# Altium integrated library linear.IntLib: 655 symbols (part 4 of 4)
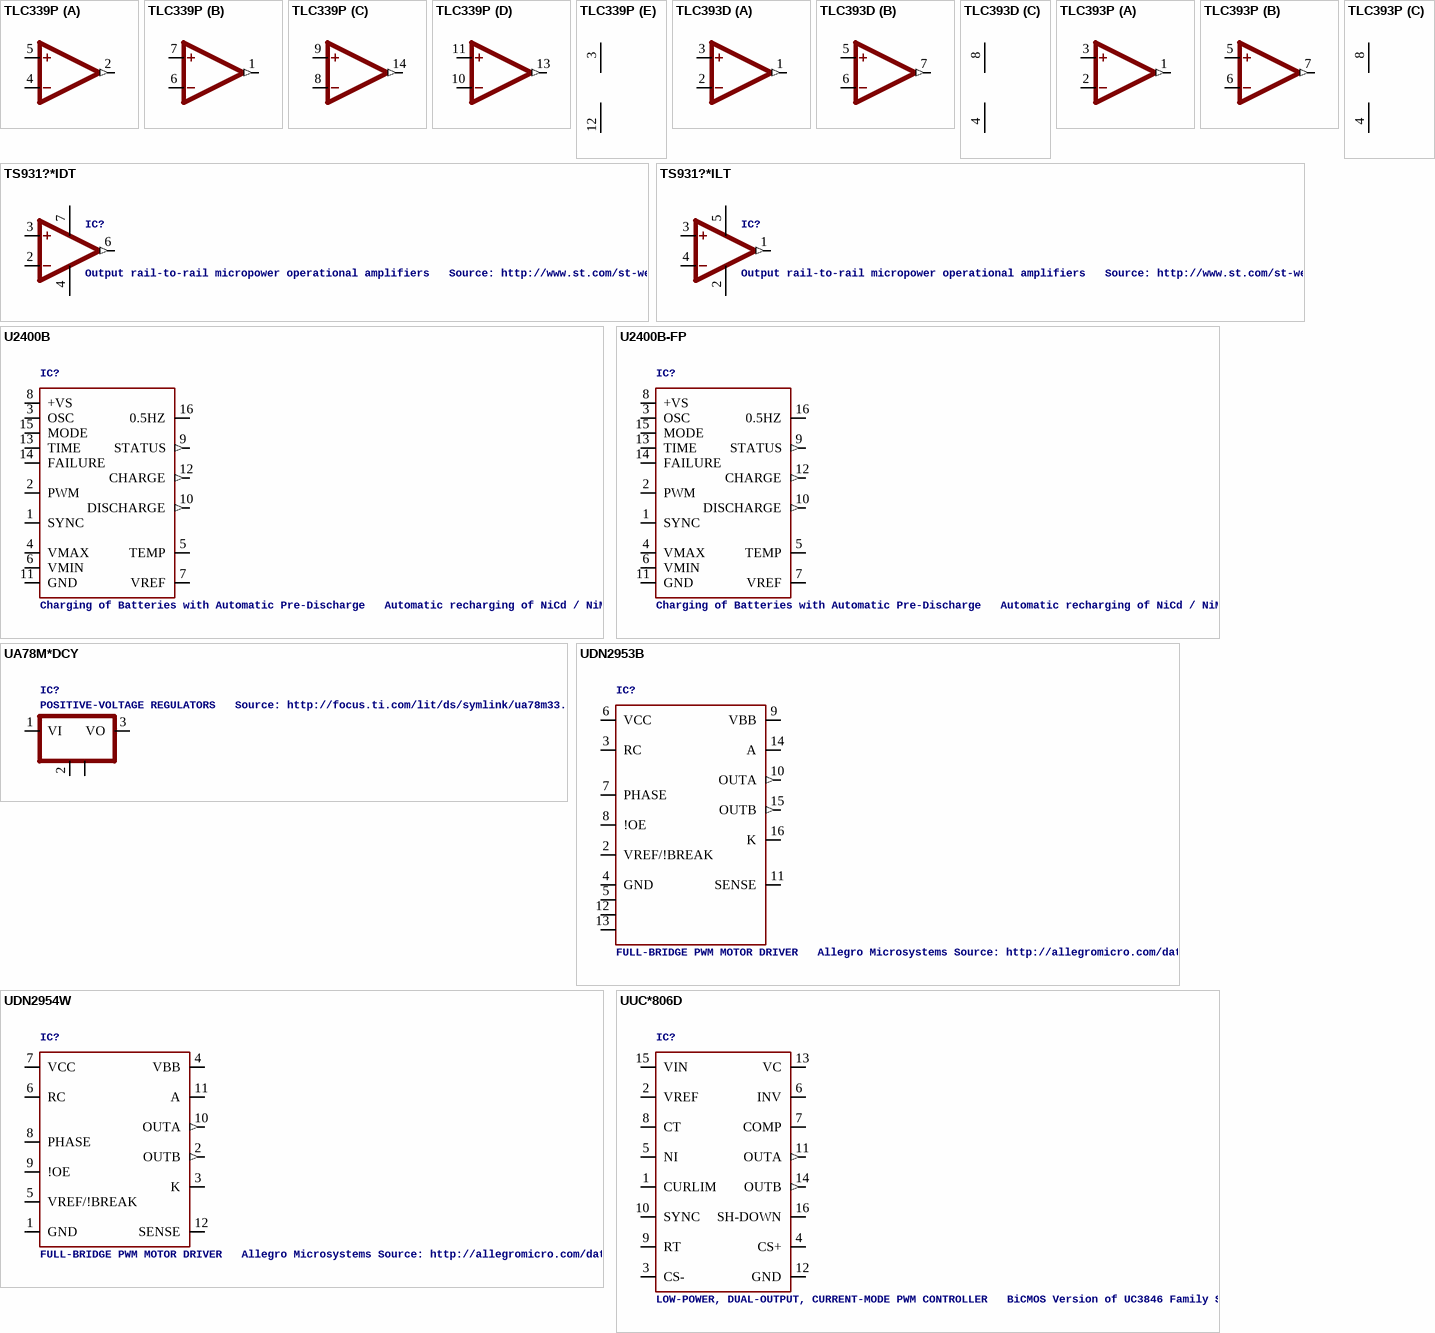
[diagram p41: symbols TLC339P to UUC*806D]

## UDN2954W
designator IC?, comment FULL-BRIDGE PWM MOTOR DRIVER   Allegro Microsystems Source: http://allegromicro.com/datafile/archive/2953.pdf
footprint UDN2954W
pins: 1 GND (power), 2 OUTB (out), 3 K, 4 VBB (power), 5 VREF/!BREAK, 6 RC, 7 VCC (power), 8 PHASE, 9 !OE, 10 OUTA (out), 11 A, 12 SENSE

## UUC*806D
designator IC?, comment LOW-POWER, DUAL-OUTPUT, CURRENT-MODE PWM CONTROLLER   BiCMOS Version of UC3846 Family Source: http://focus.ti.com/lit/ds/symlink/ucc3806.pdf
footprint SO16
pins: 1 CURLIM, 2 VREF, 3 CS-, 4 CS+, 5 NI, 6 INV, 7 COMP, 8 CT, 9 RT, 10 SYNC, 11 OUTA (out), 12 GND (power), 13 VC (power), 14 OUTB (out), 15 VIN, 16 SH-DOWN

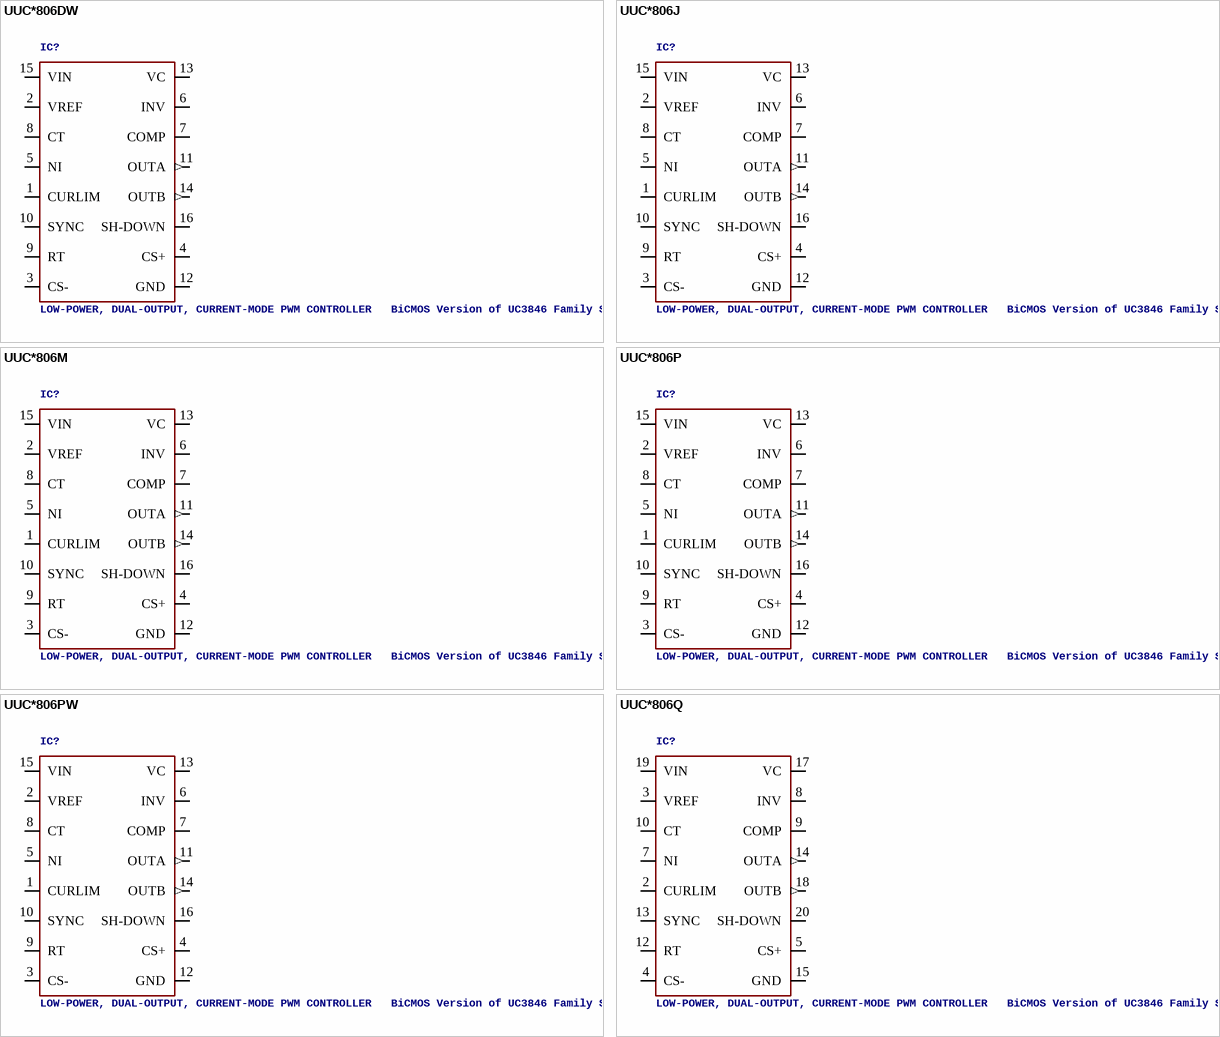
[diagram p38: symbols UUC*806DW to UUC*806Q]

## UUC*806DW
designator IC?, comment LOW-POWER, DUAL-OUTPUT, CURRENT-MODE PWM CONTROLLER   BiCMOS Version of UC3846 Family Source: http://focus.ti.com/lit/ds/symlink/ucc3806.pdf
footprint SO16DW
pins: 1 CURLIM, 2 VREF, 3 CS-, 4 CS+, 5 NI, 6 INV, 7 COMP, 8 CT, 9 RT, 10 SYNC, 11 OUTA (out), 12 GND (power), 13 VC (power), 14 OUTB (out), 15 VIN, 16 SH-DOWN

## UUC*806J
designator IC?, comment LOW-POWER, DUAL-OUTPUT, CURRENT-MODE PWM CONTROLLER   BiCMOS Version of UC3846 Family Source: http://focus.ti.com/lit/ds/symlink/ucc3806.pdf
footprint DIL16
pins: 1 CURLIM, 2 VREF, 3 CS-, 4 CS+, 5 NI, 6 INV, 7 COMP, 8 CT, 9 RT, 10 SYNC, 11 OUTA (out), 12 GND (power), 13 VC (power), 14 OUTB (out), 15 VIN, 16 SH-DOWN

## UUC*806M
designator IC?, comment LOW-POWER, DUAL-OUTPUT, CURRENT-MODE PWM CONTROLLER   BiCMOS Version of UC3846 Family Source: http://focus.ti.com/lit/ds/symlink/ucc3806.pdf
footprint SSOP16
pins: 1 CURLIM, 2 VREF, 3 CS-, 4 CS+, 5 NI, 6 INV, 7 COMP, 8 CT, 9 RT, 10 SYNC, 11 OUTA (out), 12 GND (power), 13 VC (power), 14 OUTB (out), 15 VIN, 16 SH-DOWN

## UUC*806P
designator IC?, comment LOW-POWER, DUAL-OUTPUT, CURRENT-MODE PWM CONTROLLER   BiCMOS Version of UC3846 Family Source: http://focus.ti.com/lit/ds/symlink/ucc3806.pdf
footprint DIL16
pins: 1 CURLIM, 2 VREF, 3 CS-, 4 CS+, 5 NI, 6 INV, 7 COMP, 8 CT, 9 RT, 10 SYNC, 11 OUTA (out), 12 GND (power), 13 VC (power), 14 OUTB (out), 15 VIN, 16 SH-DOWN

## UUC*806PW
designator IC?, comment LOW-POWER, DUAL-OUTPUT, CURRENT-MODE PWM CONTROLLER   BiCMOS Version of UC3846 Family Source: http://focus.ti.com/lit/ds/symlink/ucc3806.pdf
footprint TSSOP16
pins: 1 CURLIM, 2 VREF, 3 CS-, 4 CS+, 5 NI, 6 INV, 7 COMP, 8 CT, 9 RT, 10 SYNC, 11 OUTA (out), 12 GND (power), 13 VC (power), 14 OUTB (out), 15 VIN, 16 SH-DOWN

## UUC*806Q
designator IC?, comment LOW-POWER, DUAL-OUTPUT, CURRENT-MODE PWM CONTROLLER   BiCMOS Version of UC3846 Family Source: http://focus.ti.com/lit/ds/symlink/ucc3806.pdf
footprint PLCC20S
pins: 2 CURLIM, 3 VREF, 4 CS-, 5 CS+, 7 NI, 8 INV, 9 COMP, 10 CT, 12 RT, 13 SYNC, 14 OUTA (out), 15 GND (power), 17 VC (power), 18 OUTB (out), 19 VIN, 20 SH-DOWN